# EAGLE library part CABLE (library Wheatstone)
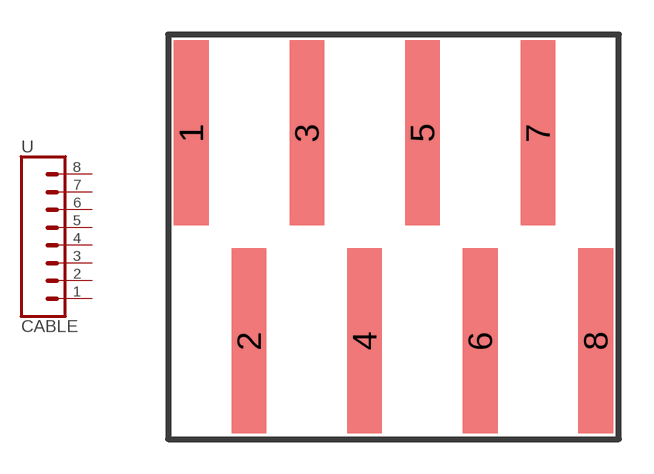
[diagram p0: symbol with the pads of CABLE; footprint CABLE]

Designator prefix -

## CABLE  [CABLE]
1  1  pas
2  2  pas
3  3  pas
4  4  pas
5  5  pas
6  6  pas
7  7  pas
8  8  pas

## Footprint CABLE (pad centres in mm)
smd 1.5 x 8: 1 -8.75,4.5; 2 -6.25,-4.5; 3 -3.75,4.5; 4 -1.25,-4.5; 5 1.25,4.5; 6 3.75,-4.5; 7 6.25,4.5; 8 8.75,-4.5